# EAGLE library part 74HC4050 (library ck)
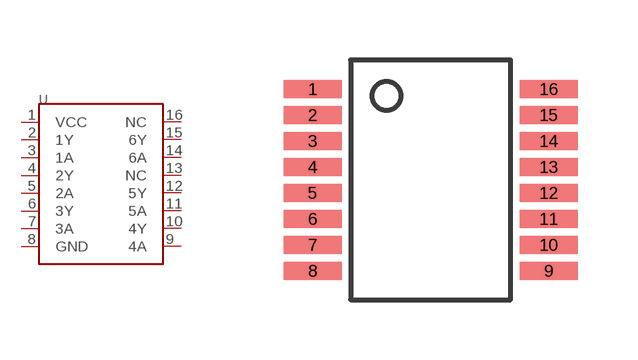
[diagram p31: symbol with the pads of 16-TSSOP; footprint 16-TSSOP]

Designator prefix U

## 74HC4050  [16-TSSOP]
1  VCC
2  1Y
3  1A
4  2Y
5  2A
6  3Y
7  3A
8  GND
9  4A
10  4Y
11  5A
12  5Y
13  NC
14  6A
15  6Y
16  NC

## Footprint 16-TSSOP (pad centres in mm)
smd 1.45 x 0.45: 1 -2.95,2.275; 2 -2.95,1.625; 3 -2.95,0.975; 4 -2.95,0.325; 5 -2.95,-0.325; 6 -2.95,-0.975; 7 -2.95,-1.625; 8 -2.95,-2.275; 9 2.95,-2.275; 10 2.95,-1.625; 11 2.95,-0.975; 12 2.95,-0.325; 13 2.95,0.325; 14 2.95,0.975; 15 2.95,1.625; 16 2.95,2.275